# EAGLE library part RPA60-2412SFW/N (library RPA60-2412SFW_N)
60 Watt 2“x1“ Single Output
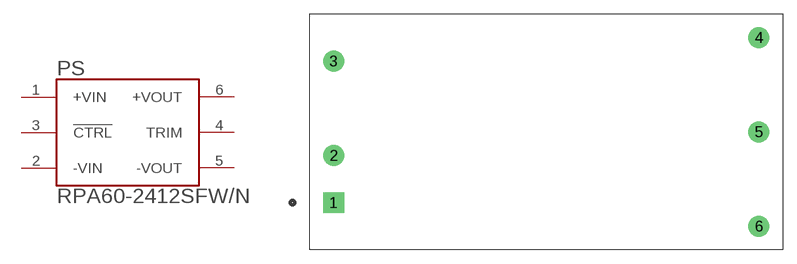
[diagram p0: symbol with the pads of CONV_RPA60-2412SFW/N; footprint CONV_RPA60-2412SFW/N]

Designator prefix PS

## RPA60-2412SFW/N (Availability: Unavailable; Description: CONV DC/DC 60W 9-36VIN 12VOUT THT 2x1; MF: Recom Power; MP: RPA60-2412SFW/N; Package: DIP-6 Recom Power; Price: None)  [CONV_RPA60-2412SFW/N]
1  +VIN  in
2  -VIN  in
3  !CTRL  in
4  TRIM  pas
5  -VOUT  out
6  +VOUT  out

## Footprint CONV_RPA60-2412SFW/N (pad centres in mm)
drill 1.5 square: 1 -22.86,-7.62
drill 1.5: 2 -22.86,-2.54; 3 -22.86,7.62; 4 22.86,10.16; 5 22.86,0; 6 22.86,-10.16